# Altium schematic symbol library TMC5041-LA-T.SchLib: 2 symbols
Pins are listed as number, name and electrical type; pins without a type are passive.

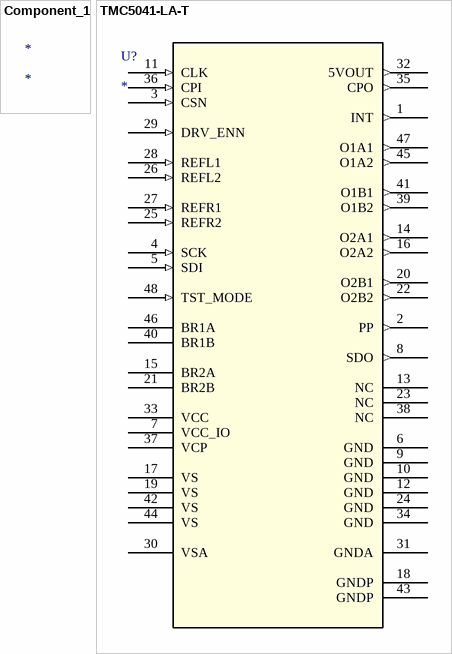
[diagram p0: symbols Component_1 to TMC5041-LA-T]

## Component_1
designator *

## TMC5041-LA-T
designator U?
No Description Available; Mfr_Name: Analog Devices / Trinamic; RefDes: RefDes; Type: Type
footprint QFN48_7X7_TRI
pins: 1 INT (out), 2 PP (out), 3 CSN (in), 4 SCK (in), 5 SDI (in), 6 GND (power), 7 VCC_IO (power), 8 SDO (out), 9 GND (power), 10 GND (power), 11 CLK (in), 12 GND (power), 13 NC, 14 O2A1 (out), 15 BR2A, 16 O2A2 (out), 17 VS (power), 18 GNDP (power), 19 VS (power), 20 O2B1 (out), 21 BR2B, 22 O2B2 (out), 23 NC, 24 GND (power), 25 REFR2 (in), 26 REFL2 (in), 27 REFR1 (in), 28 REFL1 (in), 29 DRV_ENN (in), 30 VSA (power), 31 GNDA (power), 32 5VOUT (out), 33 VCC (power), 34 GND (power), 35 CPO (out), 36 CPI (in), 37 VCP (power), 38 NC, 39 O1B2 (out), 40 BR1B, 41 O1B1 (out), 42 VS (power), 43 GNDP (power), 44 VS (power), 45 O1A2 (out), 46 BR1A, 47 O1A1 (out), 48 TST_MODE (in)